# Altium schematic symbol library BTS117TC.SchLib: 1 symbol
Pins are listed as number, name and electrical type; pins without a type are passive.

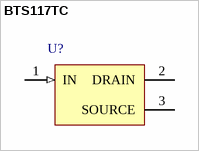
[diagram p0: symbol BTS117TC]

## BTS117TC
designator U?
Smart Low-Side Power Switch HITFET, 60 V VDS, 3.5 A ID, -40 to 150 degC, PG-TO263-3-2, Reel, Green; Manufacturer: Infineon; PartNumber: BTS117TC; Channels: 1; Green: TRUE; ID: 3.5 A; ID(lim) (min): 7 A; ISC (max): 25 A; Ptot (max): 50 mW; RDS (on)(max): 100 mOhm; ton (max): 70 us; toff (max): 150 us; VDS (max): 60 V; DatasheetVersion: Rev. 1.0; PackageVersion: Jul-09; PackageReference: PG-TO263-3-2; PackageDescription: 3-Pin Plastic (Green) Transistor Single Outline Package, 10 x 9.25 mm Body, 2.54 mm Pitch; Supplier 1: Digi-Key; Supplier Part Number 1: BTS117TCTR-ND; Supplier 2: Digi-Key; Supplier Part Number 2: BTS117TCCT-ND; Supplier 3: Digi-Key; Supplier Part Number 3: BTS117TCDKR-ND; Supplier 4: Mouser; Supplier Part Number 4: 726-BTS117TC; Group: HITFET; Halogen-free: FALSE; ID(nom): 3.5 A; Packing: Reel; Mounting Technology: Surface Mount; ComponentLink1Description: Manufacturer URL; ComponentLink1URL: http://www.infineon.com/; ComponentLink2Description: Datasheet; ComponentLink2URL: http://www.infineon.com/dgdl/BTS117TC_DS_10.pdf?folderId=db3a3043163797a6011667aa084c0e01&fileId=db3a3043242ebc9e01242f3d87500018&location=en.Products.Automotive_ICs.Smart_High-_and_Low-Side_Switches.HITFET___TEMPFET__-_Smart_Low-Side_Switches.DATASHEET.BTS117TC_DS_10.pdf; ComponentLink3Description: Package Specification; ComponentLink3URL: http://www.infineon.com/dgdl/BTS141TC_DS_10.pdf?folderId=db3a3043163797a6011667aa084c0e01&fileId=db3a3043242ebc9e01242f43f58b003e&location=en.Products.Automotive_ICs.Smart_High-_and_Low-Side_Switches.HITFET___TEMPFET__-_Smart_Low-Side_Switches.DATASHEET.BTS141TC_DS_10.pdf
footprint INF-PG-TO263-3-2_N (DPAK, 3-Leads, Body 10x9.25mm, Pitch 2.54mm, IPC Medium Density)
footprint INF-PG-TO263-3-2_L (DPAK, 3-Leads, Body 10x9.25mm, Pitch 2.54mm, IPC High Density)
footprint INF-PG-TO263-3-2_M (DPAK, 3-Leads, Body 10x9.25mm, Pitch 2.54mm, IPC Low Density)
pins: 1 IN (in), 2 DRAIN (power), 3 SOURCE (power)